# EAGLE library part L06P (library con-amp-mt)
AMP MT CONNECTOR
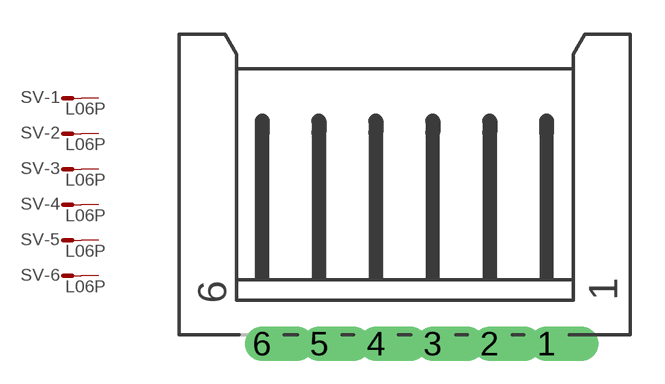
[diagram p0: symbol with the pads of L06P; footprint L06P]

Designator prefix SV; gates -1=M -2=M -3=M -4=M -5=M -6=M

## L06P  [L06P]
1  -1:S  pas
2  -2:S  pas
3  -3:S  pas
4  -4:S  pas
5  -5:S  pas
6  -6:S  pas

## Footprint L06P (pad centres in mm)
AMP MT CONNECTOR
drill 1.016 offset: 1 6.25,-6.25; 2 3.75,-6.25; 3 1.25,-6.25; 4 -1.25,-6.25; 5 -3.75,-6.25; 6 -6.25,-6.25